# Altium schematic symbol library WE-RJ45 LAN.SchLib: 105 symbols (part 1 of 2)
Pins are listed as number, name and electrical type; pins without a type are passive.

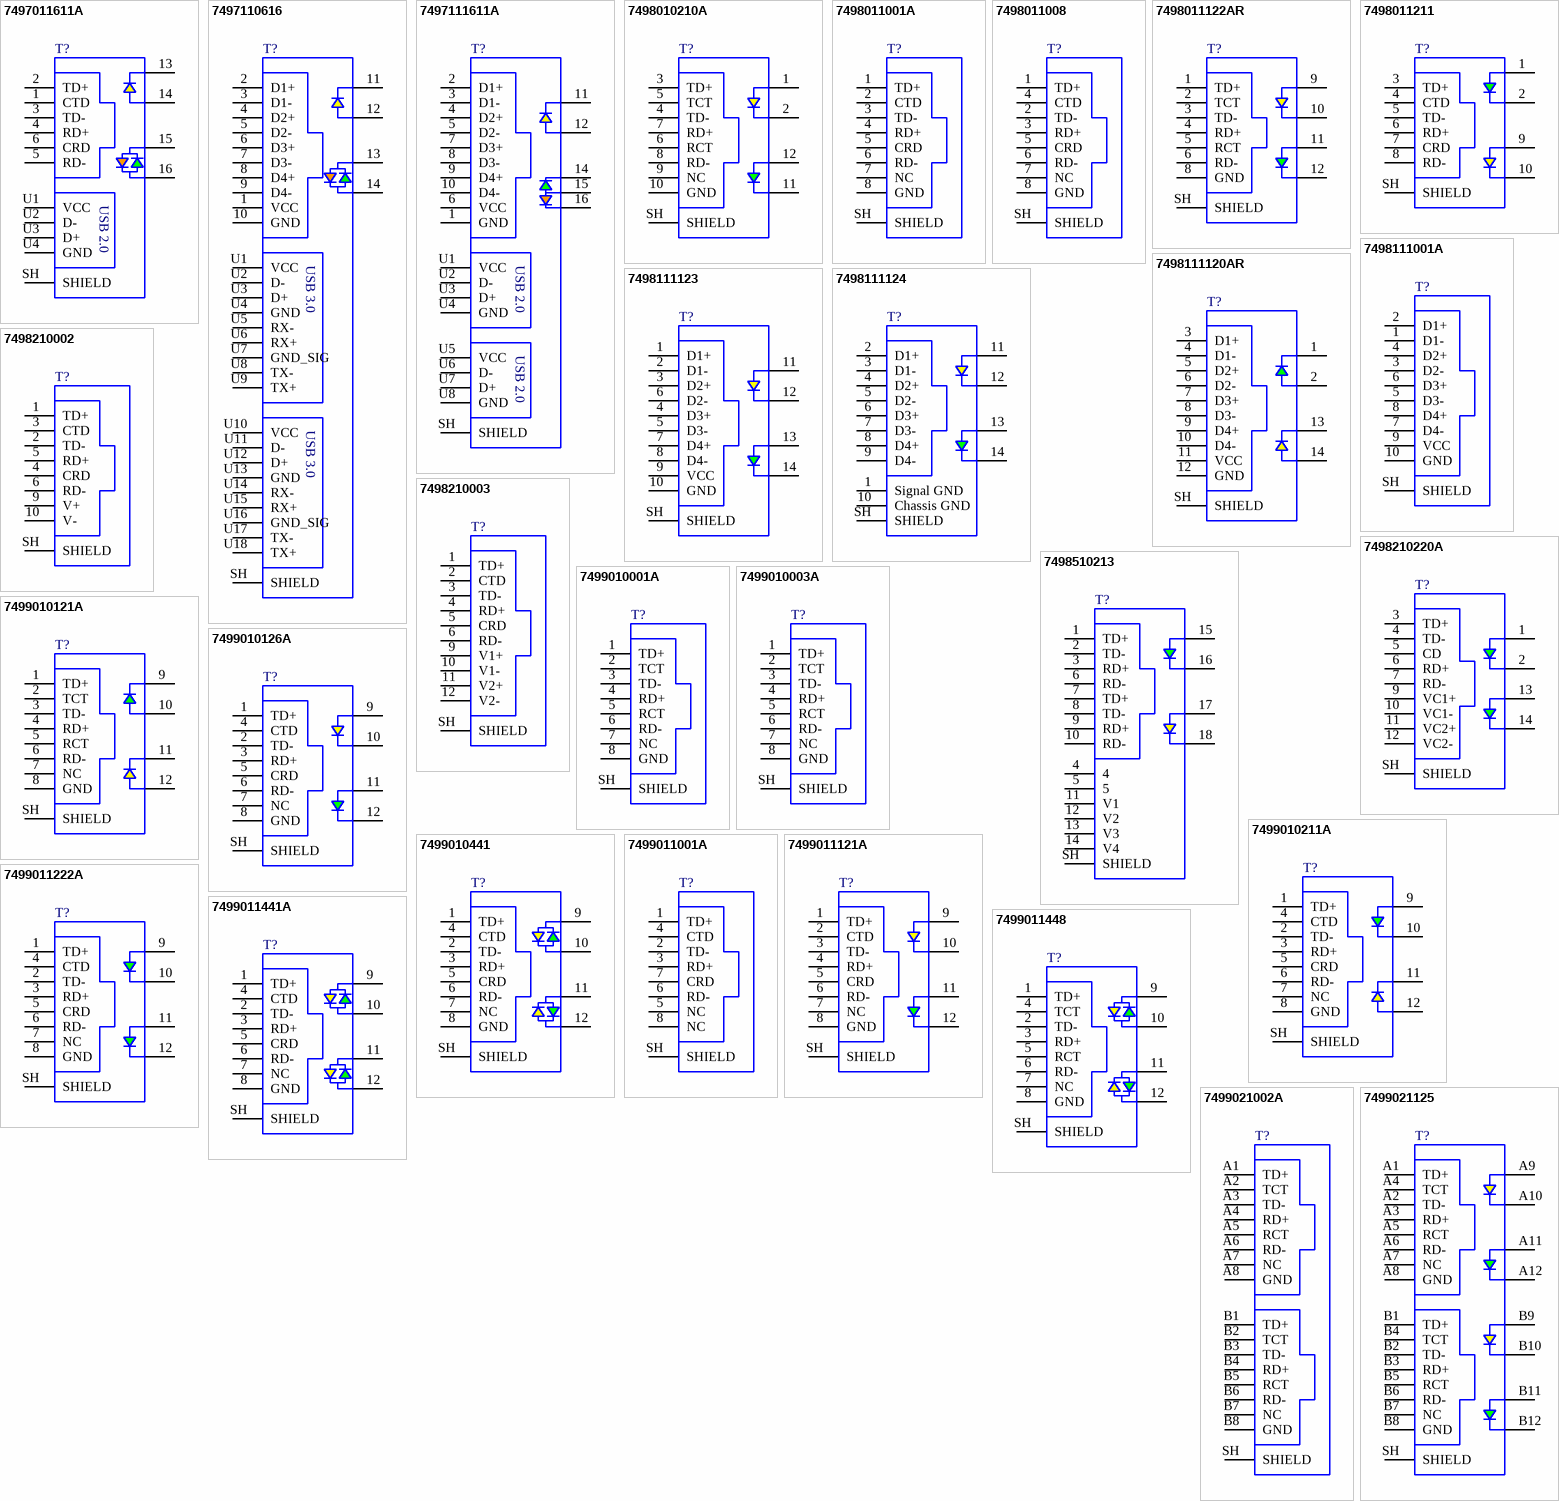
[diagram p0: symbols 7497011611A to 7499021125]

## 7497011611A
designator T?  (value not drawn)
WE-RJ45 LAN Transformer, THT, 100BASE-TX, Tab Up, 1 Port; Manufacturer: Wurth Elektronik; Improved CMRR: No; LED: green/orange-yellow; Number of Ports: 1; PHY Chip Mode: current & voltage; PoE: non-PoE; Shield Tabs: Yes; Manufacturer Part Number: 7497011611A; Product Series: WE-RJ45 LAN; ComponentLink1Description: Website Link; ComponentLink1URL: https://www.we-online.com; ComponentLink2Description: Datasheet Link; ComponentLink2URL: https://www.we-online.com/components/products/datasheet/7497011611A; Mount: Through Hole; Operating Temperature Min: -40degC; Operating Temperature Max: 85degC; Packaging: Tape and Reel; Data Rate: 100BASE-TX; Tab: Up
footprint 7497011611A
pins: 1 CTD, 2 TD+, 3 TD-, 4 RD+, 5 RD-, 6 CRD, 13, 14, 15, 16, SH SHIELD, U1 VCC, U2 D-, U3 D+, U4 GND
text: USB 2.0

## 7497110616
designator T?  (value not drawn)
WE-RJ45 LAN Transformer, THT, 1000BASE-T, Tab Up, 1 Port; Manufacturer: Wurth Elektronik; Improved CMRR: No; LED: yellow/green-green; Number of Ports: 1; PHY Chip Mode: current; PoE: non-PoE; Manufacturer Part Number: 7497110616; Product Series: WE-RJ45 LAN; ComponentLink1Description: Website Link; ComponentLink1URL: https://www.we-online.com; ComponentLink2Description: Datasheet Link; ComponentLink2URL: https://www.we-online.com/components/products/datasheet/7497110616; Mount: Through Hole; Operating Temperature Min: -40degC; Operating Temperature Max: 85degC; Packaging: Tray; Data Rate: 1000BASE-T; Shield Tabs: No; Tab: Up
footprint 7497110616
pins: 1 VCC, 2 D1+, 3 D1-, 4 D2+, 5 D2-, 6 D3+, 7 D3-, 8 D4+, 9 D4-, 10 GND, 11, 12, 13, 14, SH SHIELD, U1 VCC, U2 D-, U3 D+, U4 GND, U5 RX-, U6 RX+, U7 GND_SIG, U8 TX-, U9 TX+, U10 VCC, U11 D-, U12 D+, U13 GND, U14 RX-, U15 RX+, U16 GND_SIG, U17 TX-, U18 TX+
text: USB 3.0

## 7497111611A
designator T?  (value not drawn)
WE-RJ45 LAN Transformer, THT, 1000BASE-T, Tab Up, 1 Port; Manufacturer: Wurth Elektronik; Improved CMRR: No; LED: green/orange-yellow; Number of Ports: 1; PHY Chip Mode: current; PoE: non-PoE; Shield Tabs: Yes; Manufacturer Part Number: 7497111611A; Product Series: WE-RJ45 LAN; ComponentLink1Description: Website Link; ComponentLink1URL: https://www.we-online.com; ComponentLink2Description: Datasheet Link; ComponentLink2URL: https://www.we-online.com/components/products/datasheet/7497111611A; Mount: Through Hole; Operating Temperature Min: 0degC; Operating Temperature Max: 70degC; Packaging: Tube; Data Rate: 1000BASE-T; Tab: Up
footprint 7497111611A
pins: 1 GND, 2 D1+, 3 D1-, 4 D2+, 5 D2-, 6 VCC, 7 D3+, 8 D3-, 9 D4+, 10 D4-, 11, 12, 14, 15, 16, SH SHIELD, U1 VCC, U2 D-, U3 D+, U4 GND, U5 VCC, U6 D-, U7 D+, U8 GND
text: USB 2.0

## 7498010210A
designator T?  (value not drawn)
WE-RJ45 LAN Transformer, SMT, 10/100BASE-T, Tab Up, 1 Port; Manufacturer: Wurth Elektronik; Improved CMRR: No; LED: green-yellow; Number of Ports: 1; PHY Chip Mode: current & voltage; PoE: non-PoE; Shield Tabs: Yes; Manufacturer Part Number: 7498010210A; Product Series: WE-RJ45 LAN; ComponentLink1Description: Website Link; ComponentLink1URL: https://www.we-online.com; ComponentLink2Description: Datasheet Link; ComponentLink2URL: https://www.we-online.com/components/products/datasheet/7498010210A; Mount: Surface Mount; Operating Temperature Min: -40degC; Operating Temperature Max: 85degC; Packaging: Tape and Reel; Data Rate: 10/100BASE-T; Tab: Up
footprint 7498010210A
pins: 1, 2, 3 TD+, 4 TD-, 5 TCT, 6 RCT, 7 RD+, 8 RD-, 9 NC, 10 GND, 11, 12, SH SHIELD

## 7498011001A
designator T?  (value not drawn)
WE-RJ45 LAN Transformer, SMT, 100BASE-TX, Tab Down, 1 Port; Manufacturer: Wurth Elektronik; Improved CMRR: No; LED: No LED; Number of Ports: 1; PHY Chip Mode: current & voltage; PoE: non-PoE; Shield Tabs: Yes; Manufacturer Part Number: 7498011001A; Product Series: WE-RJ45 LAN; ComponentLink1Description: Website Link; ComponentLink1URL: https://www.we-online.com; ComponentLink2Description: Datasheet Link; ComponentLink2URL: https://www.we-online.com/components/products/datasheet/7498011001A; Mount: Surface Mount; Operating Temperature Min: -40degC; Operating Temperature Max: 85degC; Packaging: Tray; Data Rate: 100BASE-TX; Tab: Down
footprint 7498011001A
pins: 1 TD+, 2 CTD, 3 TD-, 4 RD+, 5 CRD, 6 RD-, 7 NC, 8 GND, SH SHIELD

## 7498011008
designator T?  (value not drawn)
WE-RJ45 LAN Transformer, SMT, 100BASE-TX, Tab Down, 1 Port; Manufacturer: Wurth Elektronik; Improved CMRR: No; LED: No LED; Number of Ports: 1; PHY Chip Mode: current & voltage; PoE: non-PoE; Shield Tabs: Yes; Manufacturer Part Number: 7498011008; Product Series: WE-RJ45 LAN; ComponentLink1Description: Website Link; ComponentLink1URL: https://www.we-online.com; ComponentLink2Description: Datasheet Link; ComponentLink2URL: https://www.we-online.com/components/products/datasheet/7498011008; Mount: Surface Mount; Operating Temperature Min: -40degC; Operating Temperature Max: 85degC; Packaging: Tray; Data Rate: 100BASE-TX; Tab: Down
footprint 7498011008
pins: 1 TD+, 2 TD-, 3 RD+, 4 CTD, 5 CRD, 6 RD-, 7 NC, 8 GND, SH SHIELD

## 7498011122AR
designator T?  (value not drawn)
WE-RJ45 LAN Transformer, SMT, 10/100BASE-T, Tab Up, 1 Port; Manufacturer: Wurth Elektronik; Improved CMRR: No; LED: yellow-green; Number of Ports: 1; PHY Chip Mode: current & voltage; PoE: non-PoE; Shield Tabs: Yes; Manufacturer Part Number: 7498011122AR; Product Series: WE-RJ45 LAN; ComponentLink1Description: Website Link; ComponentLink1URL: https://www.we-online.com; ComponentLink2Description: Datasheet Link; ComponentLink2URL: https://www.we-online.com/components/products/datasheet/7498011122AR; Mount: Surface Mount; Operating Temperature Min: -40degC; Operating Temperature Max: 85degC; Packaging: Tape and Reel; Data Rate: 10/100BASE-T; Tab: Up
footprint 7498011122AR
pins: 1 TD+, 2 TCT, 3 TD-, 4 RD+, 5 RCT, 6 RD-, 8 GND, 9, 10, 11, 12, SH SHIELD

## 7498011211
designator T?  (value not drawn)
WE-RJ45 LAN Transformer, SMT, 100BASE-TX, Tab Down, 1 Port; Manufacturer: Wurth Elektronik; Improved CMRR: Yes; LED: green-yellow; Number of Ports: 1; PHY Chip Mode: current & voltage; PoE: non-PoE; Manufacturer Part Number: 7498011211; Product Series: WE-RJ45 LAN; ComponentLink1Description: Website Link; ComponentLink1URL: https://www.we-online.com; ComponentLink2Description: Datasheet Link; ComponentLink2URL: https://www.we-online.com/components/products/datasheet/7498011211; Mount: Surface Mount; Operating Temperature Min: -40degC; Operating Temperature Max: 85degC; Packaging: Tray; Data Rate: 100BASE-TX; Shield Tabs: Yes; Tab: Down
footprint 7498011211
pins: 1, 2, 3 TD+, 4 CTD, 5 TD-, 6 RD+, 7 CRD, 8 RD-, 9, 10, SH SHIELD

## 7498111001A
designator T?  (value not drawn)
WE-RJ45 LAN Transformer, SMT, 1000BASE-T, Tab Up, 1 Port; Manufacturer: Wurth Elektronik; Improved CMRR: No; LED: No LED; Number of Ports: 1; PHY Chip Mode: current; PoE: non-PoE; Shield Tabs: Yes; Manufacturer Part Number: 7498111001A; Product Series: WE-RJ45 LAN; ComponentLink1Description: Website Link; ComponentLink1URL: https://www.we-online.com; ComponentLink2Description: Datasheet Link; ComponentLink2URL: https://www.we-online.com/components/products/datasheet/7498111001A; Mount: Surface Mount; Operating Temperature Min: -40degC; Operating Temperature Max: 85degC; Packaging: Tray; Data Rate: 1000BASE-T; Tab: Up
footprint 7498111001A
pins: 1 D1-, 2 D1+, 3 D2-, 4 D2+, 5 D3-, 6 D3+, 7 D4-, 8 D4+, 9 VCC, 10 GND, SH SHIELD

## 7498111120AR
designator T?  (value not drawn)
WE-RJ45 LAN Transformer, SMT, 1000BASE-T, Tab Up, 1 Port; Manufacturer: Wurth Elektronik; Improved CMRR: No; LED: yellow-green; Number of Ports: 1; PHY Chip Mode: current; PoE: non-PoE; Shield Tabs: Yes; Manufacturer Part Number: 7498111120AR; Product Series: WE-RJ45 LAN; ComponentLink1Description: Website Link; ComponentLink1URL: https://www.we-online.com; ComponentLink2Description: Datasheet Link; ComponentLink2URL: https://www.we-online.com/components/products/datasheet/7498111120AR; Mount: Surface Mount; Operating Temperature Min: -40degC; Operating Temperature Max: 85degC; Packaging: Tape and Reel; Data Rate: 1000BASE-T; Tab: Up
footprint 7498111120AR
pins: 1, 2, 3 D1+, 4 D1-, 5 D2+, 6 D2-, 7 D3+, 8 D3-, 9 D4+, 10 D4-, 11 VCC, 12 GND, 13, 14, SH SHIELD

## 7498111123
designator T?  (value not drawn)
WE-RJ45 LAN Through Hole Reflow, THR, 1000BASE-T, Tab Down, 1 Port; Manufacturer: Wurth Elektronik; Improved CMRR: No; LED: yellow-green; Number of Ports: 1; PHY Chip Mode: current; PoE: non-PoE; Shield Tabs: Yes; Manufacturer Part Number: 7498111123; Product Series: WE-RJ45 LAN; ComponentLink1Description: Website Link; ComponentLink1URL: https://www.we-online.com; ComponentLink2Description: Datasheet Link; ComponentLink2URL: https://www.we-online.com/components/products/datasheet/7498111123; Mount: Through Hole Reflow; Operating Temperature Min: -40degC; Operating Temperature Max: 85degC; Packaging: Tape and Reel; Data Rate: 1000BASE-T; Tab: Down; USB: No
footprint 7498111123
pins: 1 D1+, 2 D1-, 3 D2+, 4 D3+, 5 D3-, 6 D2-, 7 D4+, 8 D4-, 9 VCC, 10 GND, 11, 12, 13, 14, SH SHIELD

## 7498111124
designator T?  (value not drawn)
WE-RJ45 LAN Through Hole Reflow, THR, 1000BASE-T, Tab Down, 1 Port; Manufacturer: Wurth Elektronik; Improved CMRR: No; LED: yellow-green; Number of Ports: 1; PHY Chip Mode: voltage; PoE: non-PoE; Shield Tabs: Yes; Manufacturer Part Number: 7498111124; Product Series: WE-RJ45 LAN; ComponentLink1Description: Website Link; ComponentLink1URL: https://www.we-online.com; ComponentLink2Description: Datasheet Link; ComponentLink2URL: https://www.we-online.com/components/products/datasheet/7498111124; Mount: Through Hole Reflow; Operating Temperature Min: -40degC; Operating Temperature Max: 85degC; Packaging: Tape and Reel; Data Rate: 1000BASE-T; Tab: Down; USB: No
footprint 7498111124
pins: 1 Signal GND, 2 D1+, 3 D1-, 4 D2+, 5 D2-, 6 D3+, 7 D3-, 8 D4+, 9 D4-, 10 Chassis GND, 11, 12, 13, 14, SH SHIELD

## 7498210002
designator T?  (value not drawn)
WE-RJ45 LAN Transformer, SMT, 100BASE-TX, Tab Down, 1 Port; Manufacturer: Wurth Elektronik; Improved CMRR: No; LED: No LED; Number of Ports: 1; PHY Chip Mode: current & voltage; PoE: PoE+ (up to 600 mA); Manufacturer Part Number: 7498210002; Product Series: WE-RJ45 LAN; ComponentLink1Description: Website Link; ComponentLink1URL: https://www.we-online.com; ComponentLink2Description: Datasheet Link; ComponentLink2URL: https://www.we-online.com/components/products/datasheet/7498210002; Mount: Surface Mount; Operating Temperature Min: -40degC; Operating Temperature Max: 85degC; Packaging: Tape and Reel; Data Rate: 100BASE-TX; Shield Tabs: No; Tab: Down
footprint 7498210002
pins: 1 TD+, 2 TD-, 3 CTD, 4 CRD, 5 RD+, 6 RD-, 9 V+, 10 V-, SH SHIELD

## 7498210003
designator T?  (value not drawn)
WE-RJ45 LAN Transformer, SMT, 10/100BASE-T, Tab Up, 1 Port; Manufacturer: Wurth Elektronik; Improved CMRR: No; LED: No LED; Number of Ports: 1; PHY Chip Mode: current & voltage; Shield Tabs: Yes; Manufacturer Part Number: 7498210003; Product Series: WE-RJ45 LAN; ComponentLink1Description: Website Link; ComponentLink1URL: https://www.we-online.com; ComponentLink2Description: Datasheet Link; ComponentLink2URL: https://www.we-online.com/components/products/datasheet/7498210003; Mount: Surface Mount; Operating Temperature Min: -40degC; Operating Temperature Max: 85degC; Packaging: Tray; Data Rate: 10/100BASE-T; PoE: PoE; Tab: Up
footprint 7498210003
pins: 1 TD+, 2 CTD, 3 TD-, 4 RD+, 5 CRD, 6 RD-, 9 V1+, 10 V1-, 11 V2+, 12 V2-, SH SHIELD

## 7498210220A
designator T?  (value not drawn)
WE-RJ45 LAN Transformer, SMT, 10/100BASE-TX, Tab Up, 1 Port; Manufacturer: Wurth Elektronik; LED: green-green; Number of Ports: 1; Shield Tabs: No; Manufacturer Part Number: 7498210220A; Product Series: WE-RJ45 LAN; ComponentLink1Description: Website Link; ComponentLink1URL: https://www.we-online.com; ComponentLink2Description: Datasheet Link; ComponentLink2URL: https://www.we-online.com/components/products/datasheet/7498210220A; Mount: Surface Mount; Operating Temperature Min: -40degC; Operating Temperature Max: 85degC; Packaging: Tray; Data Rate: 10/100BASE-TX; PoE: PoE; Tab: Up; USB: No
footprint 7498210220A
pins: 1, 2, 3 TD+, 4 TD-, 5 CD, 6 RD+, 7 RD-, 9 VC1+, 10 VC1-, 11 VC2+, 12 VC2-, 13, 14, SH SHIELD

## 7498510213
designator T?  (value not drawn)
WE-RJ45 LAN Through Hole Reflow, THR, 1000BASE-T, Tab Down, 1 Port; Manufacturer: Wurth Elektronik; Improved CMRR: No; LED: green-yellow; Number of Ports: 1; PHY Chip Mode: current; Manufacturer Part Number: 7498510213; Product Series: WE-RJ45 LAN; ComponentLink1Description: Website Link; ComponentLink1URL: https://www.we-online.com; ComponentLink2Description: Datasheet Link; ComponentLink2URL: https://www.we-online.com/components/products/datasheet/7498510213; Mount: Through Hole Reflow; Operating Temperature Min: -40degC; Operating Temperature Max: 85degC; Packaging: Tape and Reel; Data Rate: 1000BASE-T; PoE: PoE; Shield Tabs: No; Tab: Down
footprint 7498510213
pins: 1 TD+, 2 TD-, 3 RD+, 4, 5, 6 RD-, 7 TD+, 8 TD-, 9 RD+, 10 RD-, 11 V1, 12 V2, 13 V3, 14 V4, 15, 16, 17, 18, SH SHIELD

## 7499010001A
designator T?  (value not drawn)
WE-RJ45 LAN Transformer, THT, 100BASE-TX, Tab Up, 1x1 Port; Manufacturer: Wurth Elektronik; Improved CMRR: No; PHY Chip Mode: current & voltage; PoE: non-PoE; Manufacturer Part Number: 7499010001A; Product Series: WE-RJ45 LAN; ComponentLink1Description: Website Link; ComponentLink1URL: https://www.we-online.com; ComponentLink2Description: Datasheet Link; ComponentLink2URL: https://www.we-online.com/components/products/datasheet/7499010001A; Mount: Through Hole; Operating Temperature Min: -40degC; Operating Temperature Max: 85degC; Packaging: Tube; Data Rate: 100BASE-TX; Number of Ports: 1x1; Shield Tabs: No; Tab: Up
footprint 7499010001A
pins: 1 TD+, 2 TCT, 3 TD-, 4 RD+, 5 RCT, 6 RD-, 7 NC, 8 GND, SH SHIELD

## 7499010003A
designator T?  (value not drawn)
WE-RJ45 LAN Transformer, THT, 10/100BASE-T, Tab Up, 1 Port; Manufacturer: Wurth Elektronik; Improved CMRR: No; LED: No LED; Number of Ports: 1; PHY Chip Mode: current & voltage; PoE: non-PoE; Manufacturer Part Number: 7499010003A; Product Series: WE-RJ45 LAN; ComponentLink1Description: Website Link; ComponentLink1URL: https://www.we-online.com; ComponentLink2Description: Datasheet Link; ComponentLink2URL: https://www.we-online.com/components/products/datasheet/7499010003A; Mount: Through Hole; Operating Temperature Min: -40degC; Operating Temperature Max: 85degC; Packaging: Tube; Data Rate: 10/100BASE-T; Shield Tabs: No; Tab: Up
footprint 7499010003A
pins: 1 TD+, 2 TCT, 3 TD-, 4 RD+, 5 RCT, 6 RD-, 7 NC, 8 GND, SH SHIELD

## 7499010121A
designator T?  (value not drawn)
WE-RJ45 LAN Transformer, THT, 100BASE-TX, Tab Up, 1x1 Port; Manufacturer: Wurth Elektronik; Improved CMRR: No; LED: yellow-green; PHY Chip Mode: current & voltage; PoE: non-PoE; Manufacturer Part Number: 7499010121A; Product Series: WE-RJ45 LAN; ComponentLink1Description: Website Link; ComponentLink1URL: https://www.we-online.com; ComponentLink2Description: Datasheet Link; ComponentLink2URL: https://www.we-online.com/components/products/datasheet/7499010121A; Mount: Through Hole; Operating Temperature Min: -40degC; Operating Temperature Max: 85degC; Packaging: Tube; Data Rate: 100BASE-TX; Number of Ports: 1x1; Shield Tabs: No; Tab: Up
footprint 7499010121A
pins: 1 TD+, 2 TCT, 3 TD-, 4 RD+, 5 RCT, 6 RD-, 7 NC, 8 GND, 9, 10, 11, 12, SH SHIELD

## 7499010126A
designator T?  (value not drawn)
WE-RJ45 LAN Transformer, THT, 100BASE-TX, Tab Vertical, 1 Port; Manufacturer: Wurth Elektronik; Improved CMRR: No; LED: green-yellow; Number of Ports: 1; PHY Chip Mode: current & voltage; PoE: non-PoE; Manufacturer Part Number: 7499010126A; Product Series: WE-RJ45 LAN; ComponentLink1Description: Website Link; ComponentLink1URL: https://www.we-online.com; ComponentLink2Description: Datasheet Link; ComponentLink2URL: https://www.we-online.com/components/products/datasheet/7499010126A; Mount: Through Hole; Operating Temperature Min: -40degC; Operating Temperature Max: 85degC; Packaging: Tray; Data Rate: 100BASE-TX; Shield Tabs: No; Tab: Vertical
footprint 7499010126A
pins: 1 TD+, 2 TD-, 3 RD+, 4 CTD, 5 CRD, 6 RD-, 7 NC, 8 GND, 9, 10, 11, 12, SH SHIELD

## 7499010211A
designator T?  (value not drawn)
WE-RJ45 LAN Transformer, THT, 100BASE-TX, Tab Down, 1x1 Port; Manufacturer: Wurth Elektronik; Improved CMRR: No; LED: green-yellow; PHY Chip Mode: current & voltage; PoE: non-PoE; Manufacturer Part Number: 7499010211A; Product Series: WE-RJ45 LAN; ComponentLink1Description: Website Link; ComponentLink1URL: https://www.we-online.com; ComponentLink2Description: Datasheet Link; ComponentLink2URL: https://www.we-online.com/components/products/datasheet/7499010211A; Mount: Through Hole; Operating Temperature Min: 0degC; Operating Temperature Max: 70degC; Packaging: Tube; Data Rate: 100BASE-TX; Number of Ports: 1x1; Shield Tabs: No; Tab: Down
footprint 7499010211A
pins: 1 TD+, 2 TD-, 3 RD+, 4 CTD, 5 CRD, 6 RD-, 7 NC, 8 GND, 9, 10, 11, 12, SH SHIELD

## 7499010441
designator T?  (value not drawn)
WE-RJ45 LAN Transformer, THT, 100BASE-TX, Tab Down, 1 Port; Manufacturer: Wurth Elektronik; Improved CMRR: No; LED: green/yellow - green/yellow; Number of Ports: 1; PHY Chip Mode: current & voltage; PoE: non-PoE; Manufacturer Part Number: 7499010441; Product Series: WE-RJ45 LAN; ComponentLink1Description: Website Link; ComponentLink1URL: https://www.we-online.com; ComponentLink2Description: Datasheet Link; ComponentLink2URL: https://www.we-online.com/components/products/datasheet/7499010441; Mount: Through Hole; Operating Temperature Min: -40degC; Operating Temperature Max: 85degC; Packaging: Tube; Data Rate: 100BASE-TX; Shield Tabs: No; Tab: Down
footprint 7499010441
pins: 1 TD+, 2 TD-, 3 RD+, 4 CTD, 5 CRD, 6 RD-, 7 NC, 8 GND, 9, 10, 11, 12, SH SHIELD

## 7499011001A
designator T?  (value not drawn)
WE-RJ45 LAN Transformer, THT, 100BASE-TX, Tab Down, 1x1 Port; Manufacturer: Wurth Elektronik; Improved CMRR: No; LED: No LED; PHY Chip Mode: current & voltage; PoE: non-PoE; Shield Tabs: Yes; Manufacturer Part Number: 7499011001A; Product Series: WE-RJ45 LAN; ComponentLink1Description: Website Link; ComponentLink1URL: https://www.we-online.com; ComponentLink2Description: Datasheet Link; ComponentLink2URL: https://www.we-online.com/components/products/datasheet/7499011001A; Mount: Through Hole; Operating Temperature Min: -40degC; Operating Temperature Max: 85degC; Packaging: Tube; Data Rate: 100BASE-TX; Number of Ports: 1x1; Tab: Down
footprint 7499011001A
pins: 1 TD+, 2 TD-, 3 RD+, 4 CTD, 5 NC, 6 RD-, 7 CRD, 8 NC, SH SHIELD

## 7499011121A
designator T?  (value not drawn)
WE-RJ45 LAN Transformer, THT, 100BASE-TX, Tab Down, 1x1 Port; Manufacturer: Wurth Elektronik; Improved CMRR: No; LED: yellow-green; PHY Chip Mode: current & voltage; PoE: non-PoE; Shield Tabs: Yes; Manufacturer Part Number: 7499011121A; Product Series: WE-RJ45 LAN; ComponentLink1Description: Website Link; ComponentLink1URL: https://www.we-online.com; ComponentLink2Description: Datasheet Link; ComponentLink2URL: https://www.we-online.com/components/products/datasheet/7499011121A; Mount: Through Hole; Operating Temperature Min: -40degC; Operating Temperature Max: 85degC; Packaging: Tube; Data Rate: 100BASE-TX; Number of Ports: 1x1; Tab: Down
footprint 7499011121A
pins: 1 TD+, 2 CTD, 3 TD-, 4 RD+, 5 CRD, 6 RD-, 7 NC, 8 GND, 9, 10, 11, 12, SH SHIELD

## 7499011222A
designator T?  (value not drawn)
WE-RJ45 LAN Transformer, THT, 100BASE-TX, Tab Down, 1x1 Port; Manufacturer: Wurth Elektronik; Improved CMRR: No; LED: green-green; PHY Chip Mode: current & voltage; PoE: non-PoE; Shield Tabs: Yes; Manufacturer Part Number: 7499011222A; Product Series: WE-RJ45 LAN; ComponentLink1Description: Website Link; ComponentLink1URL: https://www.we-online.com; ComponentLink2Description: Datasheet Link; ComponentLink2URL: https://www.we-online.com/components/products/datasheet/7499011222A; Mount: Through Hole; Operating Temperature Min: -40degC; Operating Temperature Max: 85degC; Packaging: Tube; Data Rate: 100BASE-TX; Number of Ports: 1x1; Tab: Down
footprint 7499011222A
pins: 1 TD+, 2 TD-, 3 RD+, 4 CTD, 5 CRD, 6 RD-, 7 NC, 8 GND, 9, 10, 11, 12, SH SHIELD

## 7499011441A
designator T?  (value not drawn)
WE-RJ45 LAN Transformer, THT, 100BASE-TX, Tab Up, 1 Port; Manufacturer: Wurth Elektronik; Improved CMRR: No; LED: green/yellow - green/yellow; Number of Ports: 1; PHY Chip Mode: current & voltage; PoE: non-PoE; Shield Tabs: Yes; Manufacturer Part Number: 7499011441A; Product Series: WE-RJ45 LAN; ComponentLink1Description: Website Link; ComponentLink1URL: https://www.we-online.com; ComponentLink2Description: Datasheet Link; ComponentLink2URL: https://www.we-online.com/components/products/datasheet/7499011441A; Mount: Through Hole; Operating Temperature Min: -40degC; Operating Temperature Max: 85degC; Packaging: Tube; Data Rate: 100BASE-TX; Tab: Up
footprint 7499011441A
pins: 1 TD+, 2 TD-, 3 RD+, 4 CTD, 5 CRD, 6 RD-, 7 NC, 8 GND, 9, 10, 11, 12, SH SHIELD

## 7499011448
designator T?  (value not drawn)
WE-RJ45 LAN Transformer, THT, 10/100BASE-T, Tab Vertical, 1 Port; Manufacturer: Wurth Elektronik; Improved CMRR: No; LED: yellow/green-yellow/green; Number of Ports: 1; PHY Chip Mode: current & voltage; PoE: non-PoE; Shield Tabs: Yes; Manufacturer Part Number: 7499011448; Product Series: WE-RJ45 LAN; ComponentLink1Description: Website Link; ComponentLink1URL: https://www.we-online.com; ComponentLink2Description: Datasheet Link; ComponentLink2URL: https://www.we-online.com/components/products/datasheet/7499011448; Mount: Through Hole; Operating Temperature Min: -40degC; Operating Temperature Max: 85degC; Packaging: Tray; Data Rate: 10/100BASE-T; Tab: Vertical
footprint 7499011448
pins: 1 TD+, 2 TD-, 3 RD+, 4 TCT, 5 RCT, 6 RD-, 7 NC, 8 GND, 9, 10, 11, 12, SH SHIELD

## 7499021002A
designator T?  (value not drawn)
WE-RJ45 LAN Transformer, THT, 10/100BASE-T, Tab Down, 1x2 Port; Manufacturer: Wurth Elektronik; Improved CMRR: No; LED: No LED; PHY Chip Mode: current & voltage; PoE: non-PoE; Shield Tabs: Yes; Manufacturer Part Number: 7499021002A; Product Series: WE-RJ45 LAN; ComponentLink1Description: Website Link; ComponentLink1URL: https://www.we-online.com; ComponentLink2Description: Datasheet Link; ComponentLink2URL: https://www.we-online.com/components/products/datasheet/7499021002A; Mount: Through Hole; Operating Temperature Min: -40degC; Operating Temperature Max: 85degC; Packaging: Tray; Data Rate: 10/100BASE-T; Number of Ports: 1x2; Tab: Down
footprint 7499021002A
pins: A1 TD+, A2 TCT, A3 TD-, A4 RD+, A5 RCT, A6 RD-, A7 NC, A8 GND, B1 TD+, B2 TCT, B3 TD-, B4 RD+, B5 RCT, B6 RD-, B7 NC, B8 GND, SH SHIELD

## 7499021125
designator T?  (value not drawn)
WE-RJ45 LAN Transformer, THT, 100BASE-TX, Tab Down, 1x2 Port; Manufacturer: Wurth Elektronik; Improved CMRR: No; LED: yellow-green; PHY Chip Mode: current & voltage; PoE: non-PoE; Shield Tabs: Yes; Manufacturer Part Number: 7499021125; Product Series: WE-RJ45 LAN; ComponentLink1Description: Website Link; ComponentLink1URL: https://www.we-online.com; ComponentLink2Description: Datasheet Link; ComponentLink2URL: https://www.we-online.com/components/products/datasheet/7499021125; Mount: Through Hole; Operating Temperature Min: -40degC; Operating Temperature Max: 85degC; Packaging: Tray; Data Rate: 100BASE-TX; Number of Ports: 1x2; Tab: Down
footprint 7499021125
pins: A1 TD+, A2 TD-, A3 RD+, A4 TCT, A5 RCT, A6 RD-, A7 NC, A8 GND, A9, A10, A11, A12, B1 TD+, B2 TD-, B3 RD+, B4 TCT, B5 RCT, B6 RD-, B7 NC, B8 GND, B9, B10, B11, B12, SH SHIELD

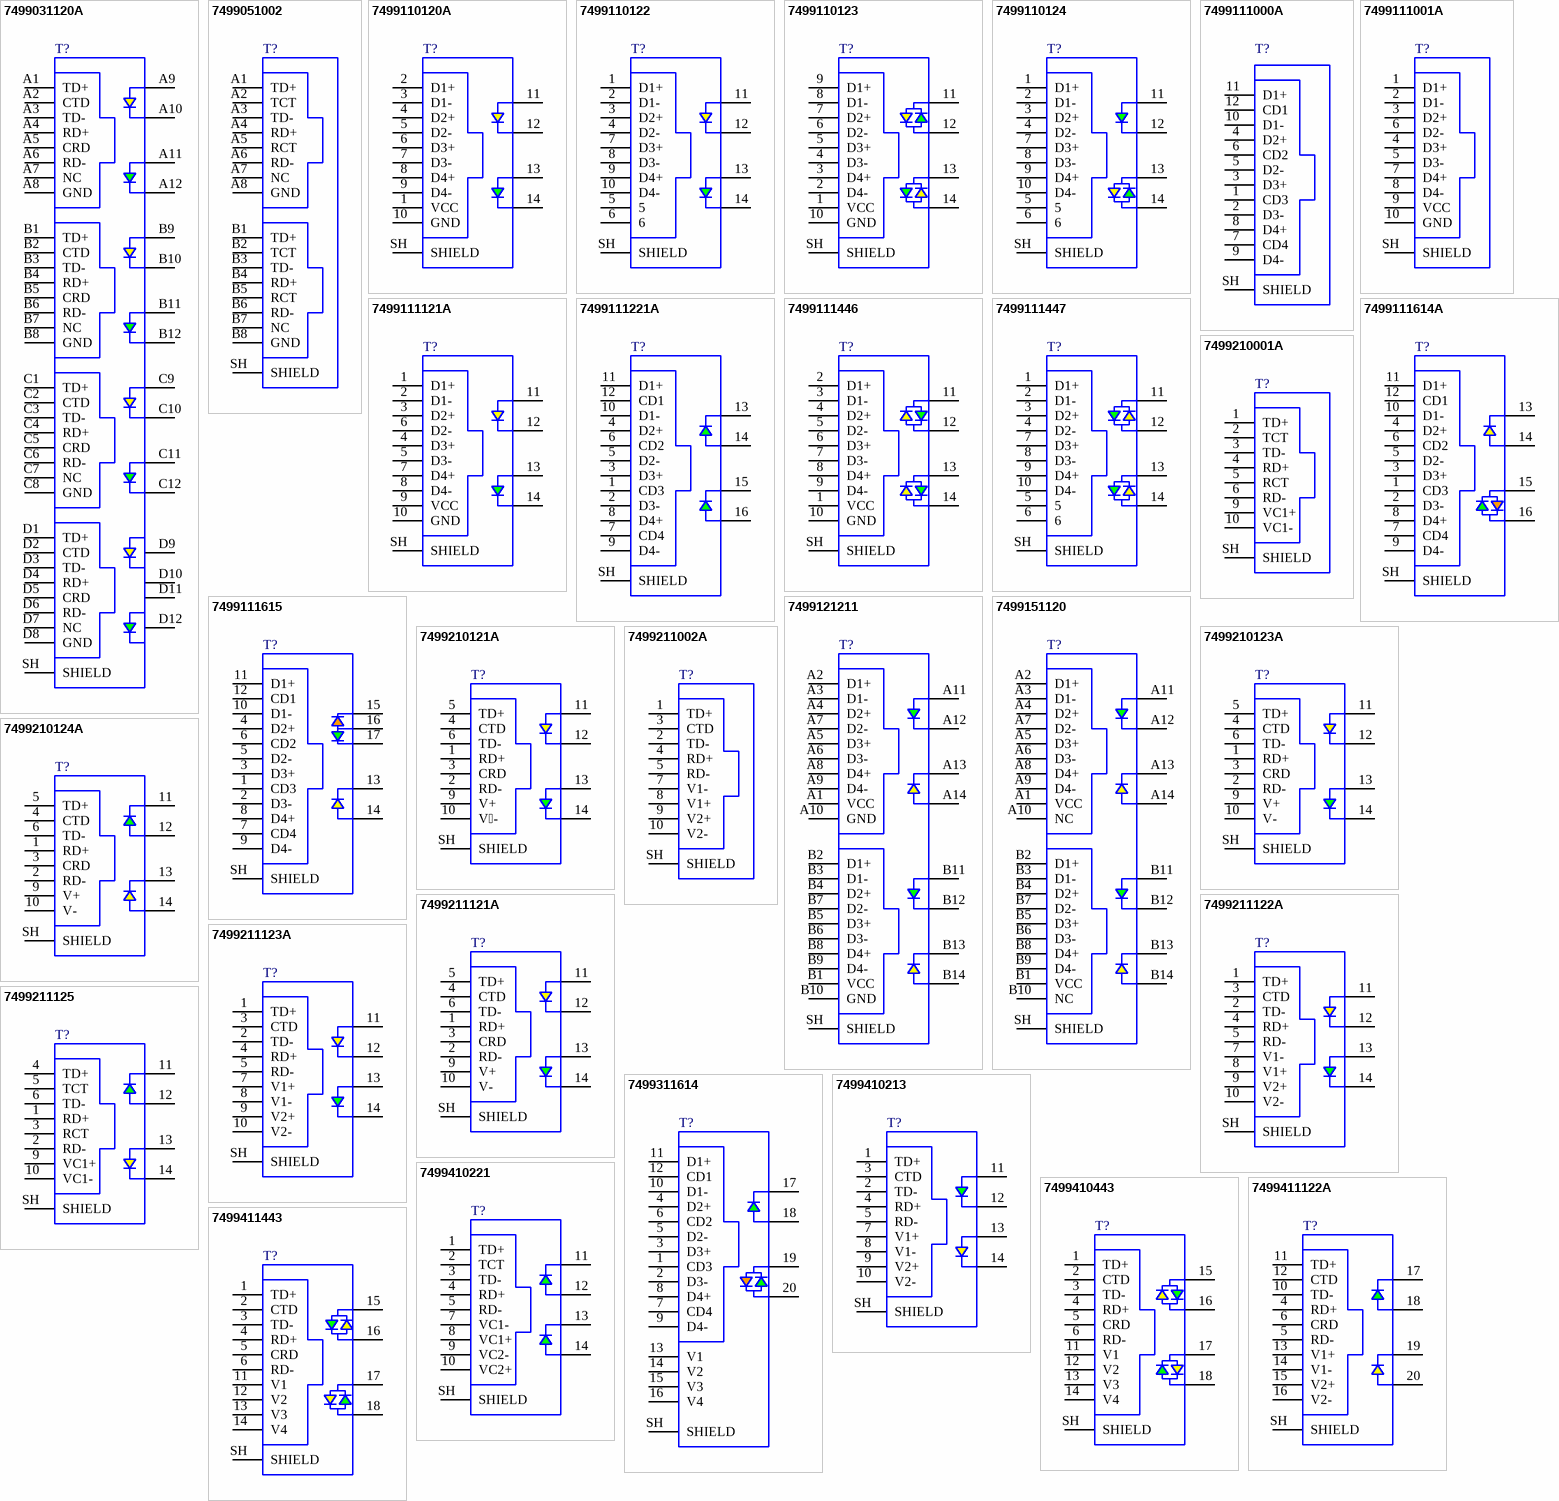
[diagram p1: symbols 7499031120A to 7499411443]

## 7499031120A
designator T?  (value not drawn)
WE-RJ45 LAN Transformer, THT, 100BASE-TX, Tab Down, 1x4 Port; Manufacturer: Wurth Elektronik; Improved CMRR: No; LED: yellow-green; PHY Chip Mode: current & voltage; PoE: non-PoE; Shield Tabs: Yes; Manufacturer Part Number: 7499031120A; Product Series: WE-RJ45 LAN; ComponentLink1Description: Website Link; ComponentLink1URL: https://www.we-online.com; ComponentLink2Description: Datasheet Link; ComponentLink2URL: https://www.we-online.com/components/products/datasheet/7499031120A; Mount: Through Hole; Operating Temperature Min: -40degC; Operating Temperature Max: 85degC; Packaging: Tube; Data Rate: 100BASE-TX; Number of Ports: 1x4; Tab: Down
footprint 7499031120A
pins: A1 TD+, A2 CTD, A3 TD-, A4 RD+, A5 CRD, A6 RD-, A7 NC, A8 GND, A9, A10, A11, A12, B1 TD+, B2 CTD, B3 TD-, B4 RD+, B5 CRD, B6 RD-, B7 NC, B8 GND, B9, B10, B11, B12, C1 TD+, C2 CTD, C3 TD-, C4 RD+, C5 CRD, C6 RD-, C7 NC, C8 GND, C9, C10, C11, C12, D1 TD+, D2 CTD, D3 TD-, D4 RD+, D5 CRD, D6 RD-, D7 NC, D8 GND, D9, D10, D11, D12, SH SHIELD

## 7499051002
designator T?  (value not drawn)
WE-RJ45 LAN Transformer, THT, 10/100BASE-T, Tab Up/Down, 2x1 Port; Manufacturer: Wurth Elektronik; Improved CMRR: No; LED: No LED; PHY Chip Mode: current & voltage; PoE: non-PoE; Shield Tabs: Yes; Manufacturer Part Number: 7499051002; Product Series: WE-RJ45 LAN; ComponentLink1Description: Website Link; ComponentLink1URL: https://www.we-online.com; ComponentLink2Description: Datasheet Link; ComponentLink2URL: https://www.we-online.com/components/products/datasheet/7499051002; Mount: Through Hole; Operating Temperature Min: -40degC; Operating Temperature Max: 85degC; Packaging: Tube; Data Rate: 10/100BASE-T; Number of Ports: 2x1; Tab: Up/Down
footprint 7499051002
pins: A1 TD+, A2 TCT, A3 TD-, A4 RD+, A5 RCT, A6 RD-, A7 NC, A8 GND, B1 TD+, B2 TCT, B3 TD-, B4 RD+, B5 RCT, B6 RD-, B7 NC, B8 GND, SH SHIELD

## 7499110120A
designator T?  (value not drawn)
WE-RJ45 LAN Transformer, THT, 1000BASE-T, Tab Vertical, 1 Port; Manufacturer: Wurth Elektronik; Improved CMRR: No; LED: green-yellow; Number of Ports: 1; PHY Chip Mode: current; PoE: non-PoE; Manufacturer Part Number: 7499110120A; Product Series: WE-RJ45 LAN; ComponentLink1Description: Website Link; ComponentLink1URL: https://www.we-online.com; ComponentLink2Description: Datasheet Link; ComponentLink2URL: https://www.we-online.com/components/products/datasheet/7499110120A; Mount: Through Hole; Operating Temperature Min: -40degC; Operating Temperature Max: 85degC; Packaging: Tray; Data Rate: 1000BASE-T; Shield Tabs: No; Tab: Vertical
footprint 7499110120A
pins: 1 VCC, 2 D1+, 3 D1-, 4 D2+, 5 D2-, 6 D3+, 7 D3-, 8 D4+, 9 D4-, 10 GND, 11, 12, 13, 14, SH SHIELD

## 7499110122
designator T?  (value not drawn)
WE-RJ45 LAN Transformer, THT, 1000BASE-T, Tab Down, 1 Port; Manufacturer: Wurth Elektronik; Improved CMRR: No; LED: yellow-green; Number of Ports: 1; PHY Chip Mode: current; PoE: non-PoE; Manufacturer Part Number: 7499110122; Product Series: WE-RJ45 LAN; ComponentLink1Description: Website Link; ComponentLink1URL: https://www.we-online.com; ComponentLink2Description: Datasheet Link; ComponentLink2URL: https://www.we-online.com/components/products/datasheet/7499110122; Mount: Through Hole; Operating Temperature Min: 0degC; Operating Temperature Max: 70degC; Packaging: Tube; Data Rate: 1000BASE-T; Shield Tabs: No; Tab: Down
footprint 7499110122
pins: 1 D1+, 2 D1-, 3 D2+, 4 D2-, 5, 6, 7 D3+, 8 D3-, 9 D4+, 10 D4-, 11, 12, 13, 14, SH SHIELD

## 7499110123
designator T?  (value not drawn)
WE-RJ45 LAN Transformer, THT, 1000BASE-T, Tab Vertical, 1 Port; Manufacturer: Wurth Elektronik; Improved CMRR: No; LED: green-yellow; Number of Ports: 1; PHY Chip Mode: current; PoE: non-PoE; Manufacturer Part Number: 7499110123; Product Series: WE-RJ45 LAN; ComponentLink1Description: Website Link; ComponentLink1URL: https://www.we-online.com; ComponentLink2Description: Datasheet Link; ComponentLink2URL: https://www.we-online.com/components/products/datasheet/7499110123; Mount: Through Hole; Operating Temperature Min: -40degC; Operating Temperature Max: 85degC; Packaging: Tube; Data Rate: 1000BASE-T; Shield Tabs: No; Tab: Vertical
footprint 7499110123
pins: 1 VCC, 2 D4-, 3 D4+, 4 D3-, 5 D3+, 6 D2-, 7 D2+, 8 D1-, 9 D1+, 10 GND, 11, 12, 13, 14, SH SHIELD

## 7499110124
designator T?  (value not drawn)
WE-RJ45 LAN Transformer, THT, 1000BASE-T, Tab Up, 1 Port; Manufacturer: Wurth Elektronik; Improved CMRR: No; LED: green-yellow/green; Number of Ports: 1; PHY Chip Mode: current; PoE: non-PoE; Manufacturer Part Number: 7499110124; Product Series: WE-RJ45 LAN; ComponentLink1Description: Website Link; ComponentLink1URL: https://www.we-online.com; ComponentLink2Description: Datasheet Link; ComponentLink2URL: https://www.we-online.com/components/products/datasheet/7499110124; Mount: Through Hole; Operating Temperature Min: -40degC; Operating Temperature Max: 85degC; Packaging: Tube; Data Rate: 1000BASE-T; Shield Tabs: No; Tab: Up
footprint 7499110124
pins: 1 D1+, 2 D1-, 3 D2+, 4 D2-, 5, 6, 7 D3+, 8 D3-, 9 D4+, 10 D4-, 11, 12, 13, 14, SH SHIELD

## 7499111000A
designator T?  (value not drawn)
WE-RJ45 LAN Transformer, THT, 1000BASE-T, Tab Up, 1 Port; Manufacturer: Wurth Elektronik; Improved CMRR: No; Number of Ports: 1; PHY Chip Mode: current & voltage; PoE: non-PoE; Shield Tabs: Yes; Manufacturer Part Number: 7499111000A; Product Series: WE-RJ45 LAN; ComponentLink1Description: Website Link; ComponentLink1URL: https://www.we-online.com; ComponentLink2Description: Datasheet Link; ComponentLink2URL: https://www.we-online.com/components/products/datasheet/7499111000A; Mount: Through Hole; Operating Temperature Min: 0degC; Operating Temperature Max: 70degC; Packaging: Tube; Data Rate: 1000BASE-T; Tab: Up
footprint 7499111000A
pins: 1 CD3, 2 D3-, 3 D3+, 4 D2+, 5 D2-, 6 CD2, 7 CD4, 8 D4+, 9 D4-, 10 D1-, 11 D1+, 12 CD1, SH SHIELD

## 7499111001A
designator T?  (value not drawn)
WE-RJ45 LAN Transformer, THT, 1000BASE-T, Tab Down, 1 Port; Manufacturer: Wurth Elektronik; Improved CMRR: No; LED: No LED; Number of Ports: 1; PHY Chip Mode: current; PoE: non-PoE; Shield Tabs: Yes; Manufacturer Part Number: 7499111001A; Product Series: WE-RJ45 LAN; ComponentLink1Description: Website Link; ComponentLink1URL: https://www.we-online.com; ComponentLink2Description: Datasheet Link; ComponentLink2URL: https://www.we-online.com/components/products/datasheet/7499111001A; Mount: Through Hole; Operating Temperature Min: -40degC; Operating Temperature Max: 85degC; Packaging: Tube; Data Rate: 1000BASE-T; Tab: Down
footprint 7499111001A
pins: 1 D1+, 2 D1-, 3 D2+, 4 D3+, 5 D3-, 6 D2-, 7 D4+, 8 D4-, 9 VCC, 10 GND, SH SHIELD

## 7499111121A
designator T?  (value not drawn)
WE-RJ45 LAN Transformer, THT, 1000BASE-T, Tab Down, 1 Port; Manufacturer: Wurth Elektronik; Improved CMRR: No; LED: yellow-green; Number of Ports: 1; PHY Chip Mode: current; PoE: non-PoE; Shield Tabs: Yes; Manufacturer Part Number: 7499111121A; Product Series: WE-RJ45 LAN; ComponentLink1Description: Website Link; ComponentLink1URL: https://www.we-online.com; ComponentLink2Description: Datasheet Link; ComponentLink2URL: https://www.we-online.com/components/products/datasheet/7499111121A; Mount: Through Hole; Operating Temperature Min: -40degC; Operating Temperature Max: 85degC; Packaging: Tube; Data Rate: 1000BASE-T; Tab: Down
footprint 7499111121A
pins: 1 D1+, 2 D1-, 3 D2+, 4 D3+, 5 D3-, 6 D2-, 7 D4+, 8 D4-, 9 VCC, 10 GND, 11, 12, 13, 14, SH SHIELD

## 7499111221A
designator T?  (value not drawn)
WE-RJ45 LAN Transformer, THT, 1000BASE-T, Tab Up, 1 Port; Manufacturer: Wurth Elektronik; Improved CMRR: No; LED: green-green; Number of Ports: 1; PHY Chip Mode: current & voltage; PoE: non-PoE; Shield Tabs: Yes; Manufacturer Part Number: 7499111221A; Product Series: WE-RJ45 LAN; ComponentLink1Description: Website Link; ComponentLink1URL: https://www.we-online.com; ComponentLink2Description: Datasheet Link; ComponentLink2URL: https://www.we-online.com/components/products/datasheet/7499111221A; Mount: Through Hole; Operating Temperature Min: 0degC; Operating Temperature Max: 70degC; Packaging: Tube; Data Rate: 1000BASE-T; Tab: Up
footprint 7499111221A
pins: 1 CD3, 2 D3-, 3 D3+, 4 D2+, 5 D2-, 6 CD2, 7 CD4, 8 D4+, 9 D4-, 10 D1-, 11 D1+, 12 CD1, 13, 14, 15, 16, SH SHIELD

## 7499111446
designator T?  (value not drawn)
WE-RJ45 LAN Transformer, THT, 1000BASE-T, Tab Down, 1 Port; Manufacturer: Wurth Elektronik; Improved CMRR: No; LED: green/yellow - green/yellow; Number of Ports: 1; PHY Chip Mode: current; PoE: non-PoE; Shield Tabs: Yes; Manufacturer Part Number: 7499111446; Product Series: WE-RJ45 LAN; ComponentLink1Description: Website Link; ComponentLink1URL: https://www.we-online.com; ComponentLink2Description: Datasheet Link; ComponentLink2URL: https://www.we-online.com/components/products/datasheet/7499111446; Mount: Through Hole; Operating Temperature Min: -40degC; Operating Temperature Max: 85degC; Packaging: Tube; Data Rate: 1000BASE-T; Tab: Down
footprint 7499111446
pins: 1 VCC, 2 D1+, 3 D1-, 4 D2+, 5 D2-, 6 D3+, 7 D3-, 8 D4+, 9 D4-, 10 GND, 11, 12, 13, 14, SH SHIELD

## 7499111447
designator T?  (value not drawn)
WE-RJ45 LAN Transformer, THT, 1000BASE-T, Tab Up, 1 Port; Manufacturer: Wurth Elektronik; Improved CMRR: No; LED: green/yellow - green/yellow; Number of Ports: 1; PHY Chip Mode: current; PoE: non-PoE; Shield Tabs: Yes; Manufacturer Part Number: 7499111447; Product Series: WE-RJ45 LAN; ComponentLink1Description: Website Link; ComponentLink1URL: https://www.we-online.com; ComponentLink2Description: Datasheet Link; ComponentLink2URL: https://www.we-online.com/components/products/datasheet/7499111447; Mount: Through Hole; Operating Temperature Min: -40degC; Operating Temperature Max: 85degC; Packaging: Tube; Data Rate: 1000BASE-T; Tab: Up
footprint 7499111447
pins: 1 D1+, 2 D1-, 3 D2+, 4 D2-, 5, 6, 7 D3+, 8 D3-, 9 D4+, 10 D4-, 11, 12, 13, 14, SH SHIELD

## 7499111614A
designator T?  (value not drawn)
WE-RJ45 LAN Transformer, THT, 1000BASE-T, Tab Up, 1 Port; Manufacturer: Wurth Elektronik; Improved CMRR: Yes; LED: green/orange-yellow; Number of Ports: 1; PHY Chip Mode: current & voltage; PoE: non-PoE; Manufacturer Part Number: 7499111614A; Product Series: WE-RJ45 LAN; ComponentLink1Description: Website Link; ComponentLink1URL: https://www.we-online.com; ComponentLink2Description: Datasheet Link; ComponentLink2URL: https://www.we-online.com/components/products/datasheet/7499111614A; Mount: Through Hole; Operating Temperature Min: -40degC; Operating Temperature Max: 85degC; Packaging: Tube; Data Rate: 1000BASE-T; Shield Tabs: Yes; Tab: Up
footprint 7499111614A
pins: 1 CD3, 2 D3-, 3 D3+, 4 D2+, 5 D2-, 6 CD2, 7 CD4, 8 D4+, 9 D4-, 10 D1-, 11 D1+, 12 CD1, 13, 14, 15, 16, SH SHIELD

## 7499111615
designator T?  (value not drawn)
WE-RJ45 LAN Transformer, THT, 1000BASE-T, Tab Up, 1 Port; Manufacturer: Wurth Elektronik; Improved CMRR: No; LED: green/orange-yellow; Number of Ports: 1; PHY Chip Mode: current & voltage; PoE: non-PoE; Shield Tabs: Yes; Manufacturer Part Number: 7499111615; Product Series: WE-RJ45 LAN; ComponentLink1Description: Website Link; ComponentLink1URL: https://www.we-online.com; ComponentLink2Description: Datasheet Link; ComponentLink2URL: https://www.we-online.com/components/products/datasheet/7499111615; Mount: Through Hole; Operating Temperature Min: -40degC; Operating Temperature Max: 85degC; Packaging: Tray; Data Rate: 1000BASE-T; Tab: Up
footprint 7499111615
pins: 1 CD3, 2 D3-, 3 D3+, 4 D2+, 5 D2-, 6 CD2, 7 CD4, 8 D4+, 9 D4-, 10 D1-, 11 D1+, 12 CD1, 13, 14, 15, 16, 17, SH SHIELD

## 7499121211
designator T?  (value not drawn)
WE-RJ45 LAN Transformer, THT, 1000BASE-T, Tab Down, 1x2 Port; Manufacturer: Wurth Elektronik; Improved CMRR: No; LED: green-yellow; PHY Chip Mode: current; PoE: non-PoE; Shield Tabs: Yes; Manufacturer Part Number: 7499121211; Product Series: WE-RJ45 LAN; ComponentLink1Description: Website Link; ComponentLink1URL: https://www.we-online.com; ComponentLink2Description: Datasheet Link; ComponentLink2URL: https://www.we-online.com/components/products/datasheet/7499121211; Mount: Through Hole; Operating Temperature Min: -40degC; Operating Temperature Max: 85degC; Packaging: Tube; Data Rate: 1000BASE-T; Number of Ports: 1x2; Tab: Down
footprint 7499121211
pins: A1 VCC, A2 D1+, A3 D1-, A4 D2+, A5 D3+, A6 D3-, A7 D2-, A8 D4+, A9 D4-, A10 GND, A11, A12, A13, A14, B1 VCC, B2 D1+, B3 D1-, B4 D2+, B5 D3+, B6 D3-, B7 D2-, B8 D4+, B9 D4-, B10 GND, B11, B12, B13, B14, SH SHIELD

## 7499151120
designator T?  (value not drawn)
WE-RJ45 LAN Transformer, THT, 1000BASE-T, Tab Up/Down, 2x1 Port; Manufacturer: Wurth Elektronik; Improved CMRR: No; LED: yellow-green; PHY Chip Mode: current; PoE: non-PoE; Shield Tabs: Yes; Manufacturer Part Number: 7499151120; Product Series: WE-RJ45 LAN; ComponentLink1Description: Website Link; ComponentLink1URL: https://www.we-online.com; ComponentLink2Description: Datasheet Link; ComponentLink2URL: https://www.we-online.com/components/products/datasheet/7499151120; Mount: Through Hole; Operating Temperature Min: -40degC; Operating Temperature Max: 85degC; Packaging: Tray; Data Rate: 1000BASE-T; Number of Ports: 2x1; Tab: Up/Down
footprint 7499151120
pins: A1 VCC, A2 D1+, A3 D1-, A4 D2+, A5 D3+, A6 D3-, A7 D2-, A8 D4+, A9 D4-, A10 NC, A11, A12, A13, A14, B1 VCC, B2 D1+, B3 D1-, B4 D2+, B5 D3+, B6 D3-, B7 D2-, B8 D4+, B9 D4-, B10 NC, B11, B12, B13, B14, SH SHIELD

## 7499210001A
designator T?  (value not drawn)
WE-RJ45 LAN Transformer, THT, 10/100BASE-T, Tab Up, 1 Port; Manufacturer: Wurth Elektronik; Improved CMRR: No; LED: No LED; Number of Ports: 1; PHY Chip Mode: current & voltage; Manufacturer Part Number: 7499210001A; Product Series: WE-RJ45 LAN; ComponentLink1Description: Website Link; ComponentLink1URL: https://www.we-online.com; ComponentLink2Description: Datasheet Link; ComponentLink2URL: https://www.we-online.com/components/products/datasheet/7499210001A; Mount: Through Hole; Operating Temperature Min: -40degC; Operating Temperature Max: 85degC; Packaging: Tube; Data Rate: 10/100BASE-T; PoE: PoE; Shield Tabs: No; Tab: Up
footprint 7499210001A
pins: 1 TD+, 2 TCT, 3 TD-, 4 RD+, 5 RCT, 6 RD-, 9 VC1+, 10 VC1-, SH SHIELD

## 7499210121A
designator T?  (value not drawn)
WE-RJ45 LAN Transformer, THT, 100BASE-TX, Tab Down, 1x1 Port; Manufacturer: Wurth Elektronik; Improved CMRR: No; LED: yellow-green; PHY Chip Mode: current & voltage; Manufacturer Part Number: 7499210121A; Product Series: WE-RJ45 LAN; ComponentLink1Description: Website Link; ComponentLink1URL: https://www.we-online.com; ComponentLink2Description: Datasheet Link; ComponentLink2URL: https://www.we-online.com/components/products/datasheet/7499210121A; Mount: Through Hole; Operating Temperature Min: -40degC; Operating Temperature Max: 85degC; Packaging: Tube; Data Rate: 100BASE-TX; Number of Ports: 1x1; PoE: PoE; Shield Tabs: No; Tab: Down
footprint 7499210121A
pins: 1 RD+, 2 RD-, 3 CRD, 4 CTD, 5 TD+, 6 TD-, 9 V+, 10 V-, 11, 12, 13, 14, SH SHIELD

## 7499210123A
designator T?  (value not drawn)
WE-RJ45 LAN Transformer, THT, 100BASE-TX, Tab Vertical, 1 Port; Manufacturer: Wurth Elektronik; Improved CMRR: No; LED: green-yellow; Number of Ports: 1; PHY Chip Mode: current & voltage; PoE: PoE (up to 350 mA); Manufacturer Part Number: 7499210123A; Product Series: WE-RJ45 LAN; ComponentLink1Description: Website Link; ComponentLink1URL: https://www.we-online.com; ComponentLink2Description: Datasheet Link; ComponentLink2URL: https://www.we-online.com/components/products/datasheet/7499210123A; Mount: Through Hole; Operating Temperature Min: -40degC; Operating Temperature Max: 85degC; Packaging: Tray; Data Rate: 100BASE-TX; Shield Tabs: No; Tab: Vertical
footprint 7499210123A
pins: 1 RD+, 2 RD-, 3 CRD, 4 CTD, 5 TD+, 6 TD-, 9 V+, 10 V-, 11, 12, 13, 14, SH SHIELD

## 7499210124A
designator T?  (value not drawn)
WE-RJ45 LAN Transformer, THT, 100BASE-TX, Tab Up, 1x1 Port; Manufacturer: Wurth Elektronik; Improved CMRR: No; LED: yellow-green; PHY Chip Mode: current & voltage; Manufacturer Part Number: 7499210124A; Product Series: WE-RJ45 LAN; ComponentLink1Description: Website Link; ComponentLink1URL: https://www.we-online.com; ComponentLink2Description: Datasheet Link; ComponentLink2URL: https://www.we-online.com/components/products/datasheet/7499210124A; Mount: Through Hole; Operating Temperature Min: -40degC; Operating Temperature Max: 85degC; Packaging: Tube; Data Rate: 100BASE-TX; Number of Ports: 1x1; PoE: PoE; Shield Tabs: No; Tab: Up
footprint 7499210124A
pins: 1 RD+, 2 RD-, 3 CRD, 4 CTD, 5 TD+, 6 TD-, 9 V+, 10 V-, 11, 12, 13, 14, SH SHIELD

## 7499211002A
designator T?  (value not drawn)
WE-RJ45 LAN Transformer, THT, 100BASE-TX, Tab Down, 1x1 Port; Manufacturer: Wurth Elektronik; Improved CMRR: No; LED: No LED; PHY Chip Mode: current; Shield Tabs: Yes; Manufacturer Part Number: 7499211002A; Product Series: WE-RJ45 LAN; ComponentLink1Description: Website Link; ComponentLink1URL: https://www.we-online.com; ComponentLink2Description: Datasheet Link; ComponentLink2URL: https://www.we-online.com/components/products/datasheet/7499211002A; Mount: Through Hole; Operating Temperature Min: -40degC; Operating Temperature Max: 85degC; Packaging: Tube; Data Rate: 100BASE-TX; Number of Ports: 1x1; PoE: PoE; Tab: Down
footprint 7499211002A
pins: 1 TD+, 2 TD-, 3 CTD, 4 RD+, 5 RD-, 7 V1-, 8 V1+, 9 V2+, 10 V2-, SH SHIELD

## 7499211121A
designator T?  (value not drawn)
WE-RJ45 LAN Transformer, THT, 100BASE-TX, Tab Down, 1x1 Port; Manufacturer: Wurth Elektronik; Improved CMRR: No; LED: yellow-green; PHY Chip Mode: current & voltage; Shield Tabs: Yes; Manufacturer Part Number: 7499211121A; Product Series: WE-RJ45 LAN; ComponentLink1Description: Website Link; ComponentLink1URL: https://www.we-online.com; ComponentLink2Description: Datasheet Link; ComponentLink2URL: https://www.we-online.com/components/products/datasheet/7499211121A; Mount: Through Hole; Operating Temperature Min: -40degC; Operating Temperature Max: 85degC; Packaging: Tube; Data Rate: 100BASE-TX; Number of Ports: 1x1; PoE: PoE; Tab: Down
footprint 7499211121A
pins: 1 RD+, 2 RD-, 3 CRD, 4 CTD, 5 TD+, 6 TD-, 9 V+, 10 V-, 11, 12, 13, 14, SH SHIELD

## 7499211122A
designator T?  (value not drawn)
WE-RJ45 LAN Transformer, THT, 100BASE-TX, Tab Down, 1x1 Port; Manufacturer: Wurth Elektronik; Improved CMRR: No; LED: yellow-green; PHY Chip Mode: current; Shield Tabs: Yes; Manufacturer Part Number: 7499211122A; Product Series: WE-RJ45 LAN; ComponentLink1Description: Website Link; ComponentLink1URL: https://www.we-online.com; ComponentLink2Description: Datasheet Link; ComponentLink2URL: https://www.we-online.com/components/products/datasheet/7499211122A; Mount: Through Hole; Operating Temperature Min: 0degC; Operating Temperature Max: 70degC; Packaging: Tube; Data Rate: 100BASE-TX; Number of Ports: 1x1; PoE: PoE; Tab: Down
footprint 7499211122A
pins: 1 TD+, 2 TD-, 3 CTD, 4 RD+, 5 RD-, 7 V1-, 8 V1+, 9 V2+, 10 V2-, 11, 12, 13, 14, SH SHIELD

## 7499211123A
designator T?  (value not drawn)
WE-RJ45 LAN Transformer, THT, 100BASE-TX, Tab Down, 1x1 Port; Manufacturer: Wurth Elektronik; Improved CMRR: Yes; LED: yellow-green; PHY Chip Mode: current; Manufacturer Part Number: 7499211123A; Product Series: WE-RJ45 LAN; ComponentLink1Description: Website Link; ComponentLink1URL: https://www.we-online.com; ComponentLink2Description: Datasheet Link; ComponentLink2URL: https://www.we-online.com/components/products/datasheet/7499211123A; Mount: Through Hole; Operating Temperature Min: 0degC; Operating Temperature Max: 70degC; Packaging: Tube; Data Rate: 100BASE-TX; Number of Ports: 1x1; PoE: PoE; Shield Tabs: Yes; Tab: Down
footprint 7499211123A
pins: 1 TD+, 2 TD-, 3 CTD, 4 RD+, 5 RD-, 7 V1+, 8 V1-, 9 V2+, 10 V2-, 11, 12, 13, 14, SH SHIELD

## 7499211125
designator T?  (value not drawn)
WE-RJ45 LAN Transformer, THT, 10/100BASE-T, Tab Up, 1 Port; Manufacturer: Wurth Elektronik; Improved CMRR: No; LED: yellow-green; Number of Ports: 1; PHY Chip Mode: current & voltage; Shield Tabs: Yes; Manufacturer Part Number: 7499211125; Product Series: WE-RJ45 LAN; ComponentLink1Description: Website Link; ComponentLink1URL: https://www.we-online.com; ComponentLink2Description: Datasheet Link; ComponentLink2URL: https://www.we-online.com/components/products/datasheet/7499211125; Mount: Through Hole; Operating Temperature Min: -40degC; Operating Temperature Max: 85degC; Packaging: Tube; Data Rate: 10/100BASE-T; PoE: PoE; Tab: Up
footprint 7499211125
pins: 1 RD+, 2 RD-, 3 RCT, 4 TD+, 5 TCT, 6 TD-, 9 VC1+, 10 VC1-, 11, 12, 13, 14, SH SHIELD

## 7499311614
designator T?  (value not drawn)
WE-RJ45 LAN Transformer, THT, 1000BASE-T, Tab Up, 1 Port; Manufacturer: Wurth Elektronik; Improved CMRR: No; LED: green/orange-green; Number of Ports: 1; PHY Chip Mode: current & voltage; Shield Tabs: Yes; Manufacturer Part Number: 7499311614; Product Series: WE-RJ45 LAN; ComponentLink1Description: Website Link; ComponentLink1URL: https://www.we-online.com; ComponentLink2Description: Datasheet Link; ComponentLink2URL: https://www.we-online.com/components/products/datasheet/7499311614; Mount: Through Hole; Operating Temperature Min: -40degC; Operating Temperature Max: 85degC; Packaging: Tray; Data Rate: 1000BASE-T; PoE: PoE; Tab: Up
footprint 7499311614
pins: 1 CD3, 2 D3-, 3 D3+, 4 D2+, 5 D2-, 6 CD2, 7 CD4, 8 D4+, 9 D4-, 10 D1-, 11 D1+, 12 CD1, 13 V1, 14 V2, 15 V3, 16 V4, 17, 18, 19, 20, SH SHIELD

## 7499410213
designator T?  (value not drawn)
WE-RJ45 LAN Transformer, THT, 100BASE-TX, Tab Down, 1 Port; Manufacturer: Wurth Elektronik; Improved CMRR: No; LED: green-yellow; Number of Ports: 1; PHY Chip Mode: current; PoE: PoE+; Manufacturer Part Number: 7499410213; Product Series: WE-RJ45 LAN; ComponentLink1Description: Website Link; ComponentLink1URL: https://www.we-online.com; ComponentLink2Description: Datasheet Link; ComponentLink2URL: https://www.we-online.com/components/products/datasheet/7499410213; Mount: Through Hole; Operating Temperature Min: -40degC; Operating Temperature Max: 85degC; Packaging: Tube; Data Rate: 100BASE-TX; Shield Tabs: No; Tab: Down
footprint 7499410213
pins: 1 TD+, 2 TD-, 3 CTD, 4 RD+, 5 RD-, 7 V1+, 8 V1-, 9 V2+, 10 V2-, 11, 12, 13, 14, SH SHIELD

## 7499410221
designator T?  (value not drawn)
WE-RJ45 LAN Transformer, THT, 10/100BASE-T, Tab Vertical, 1 Port; Manufacturer: Wurth Elektronik; Improved CMRR: No; LED: green-green; Number of Ports: 1; PHY Chip Mode: current; PoE: PoE+; Manufacturer Part Number: 7499410221; Product Series: WE-RJ45 LAN; ComponentLink1Description: Website Link; ComponentLink1URL: https://www.we-online.com; ComponentLink2Description: Datasheet Link; ComponentLink2URL: https://www.we-online.com/components/products/datasheet/7499410221; Mount: Through Hole; Operating Temperature Min: -40degC; Operating Temperature Max: 85degC; Packaging: Tube; Data Rate: 10/100BASE-T; Shield Tabs: No; Tab: Vertical
footprint 7499410221
pins: 1 TD+, 2 TCT, 3 TD-, 4 RD+, 5 RD-, 7 VC1-, 8 VC1+, 9 VC2-, 10 VC2+, 11, 12, 13, 14, SH SHIELD

## 7499410443
designator T?  (value not drawn)
WE-RJ45 LAN Transformer, THT, 100BASE-TX, Tab Down, 1 Port; Manufacturer: Wurth Elektronik; Improved CMRR: No; LED: green/yellow - green/yellow; Number of Ports: 1; PHY Chip Mode: current & voltage; PoE: PoE+; Manufacturer Part Number: 7499410443; Product Series: WE-RJ45 LAN; ComponentLink1Description: Website Link; ComponentLink1URL: https://www.we-online.com; ComponentLink2Description: Datasheet Link; ComponentLink2URL: https://www.we-online.com/components/products/datasheet/7499410443; Mount: Through Hole; Operating Temperature Min: -40degC; Operating Temperature Max: 85degC; Packaging: Tray; Data Rate: 100BASE-TX; Shield Tabs: No; Tab: Down
footprint 7499410443
pins: 1 TD+, 2 CTD, 3 TD-, 4 RD+, 5 CRD, 6 RD-, 11 V1, 12 V2, 13 V3, 14 V4, 15, 16, 17, 18, SH SHIELD

## 7499411122A
designator T?  (value not drawn)
WE-RJ45 LAN Transformer, THT, 100BASE-TX, Tab Up, 1 Port; Manufacturer: Wurth Elektronik; Improved CMRR: Yes; LED: yellow-green; Number of Ports: 1; PHY Chip Mode: current & voltage; PoE: PoE+; Manufacturer Part Number: 7499411122A; Product Series: WE-RJ45 LAN; ComponentLink1Description: Website Link; ComponentLink1URL: https://www.we-online.com; ComponentLink2Description: Datasheet Link; ComponentLink2URL: https://www.we-online.com/components/products/datasheet/7499411122A; Mount: Through Hole; Operating Temperature Min: 0degC; Operating Temperature Max: 70degC; Packaging: Tray; Data Rate: 100BASE-TX; Shield Tabs: Yes; Tab: Up
footprint 7499411122A
pins: 4 RD+, 5 RD-, 6 CRD, 10 TD-, 11 TD+, 12 CTD, 13 V1+, 14 V1-, 15 V2+, 16 V2-, 17, 18, 19, 20, SH SHIELD

## 7499411443
designator T?  (value not drawn)
WE-RJ45 LAN Transformer, THT, 100BASE-TX, Tab Down, 1 Port; Manufacturer: Wurth Elektronik; Improved CMRR: No; LED: green/yellow - green/yellow; Number of Ports: 1; PHY Chip Mode: current & voltage; PoE: PoE+; Shield Tabs: Yes; Manufacturer Part Number: 7499411443; Product Series: WE-RJ45 LAN; ComponentLink1Description: Website Link; ComponentLink1URL: https://www.we-online.com; ComponentLink2Description: Datasheet Link; ComponentLink2URL: https://www.we-online.com/components/products/datasheet/7499411443; Mount: Through Hole; Operating Temperature Min: -40degC; Operating Temperature Max: 85degC; Packaging: Tray; Data Rate: 100BASE-TX; Tab: Down
footprint 7499411443
pins: 1 TD+, 2 CTD, 3 TD-, 4 RD+, 5 CRD, 6 RD-, 11 V1, 12 V2, 13 V3, 14 V4, 15, 16, 17, 18, SH SHIELD

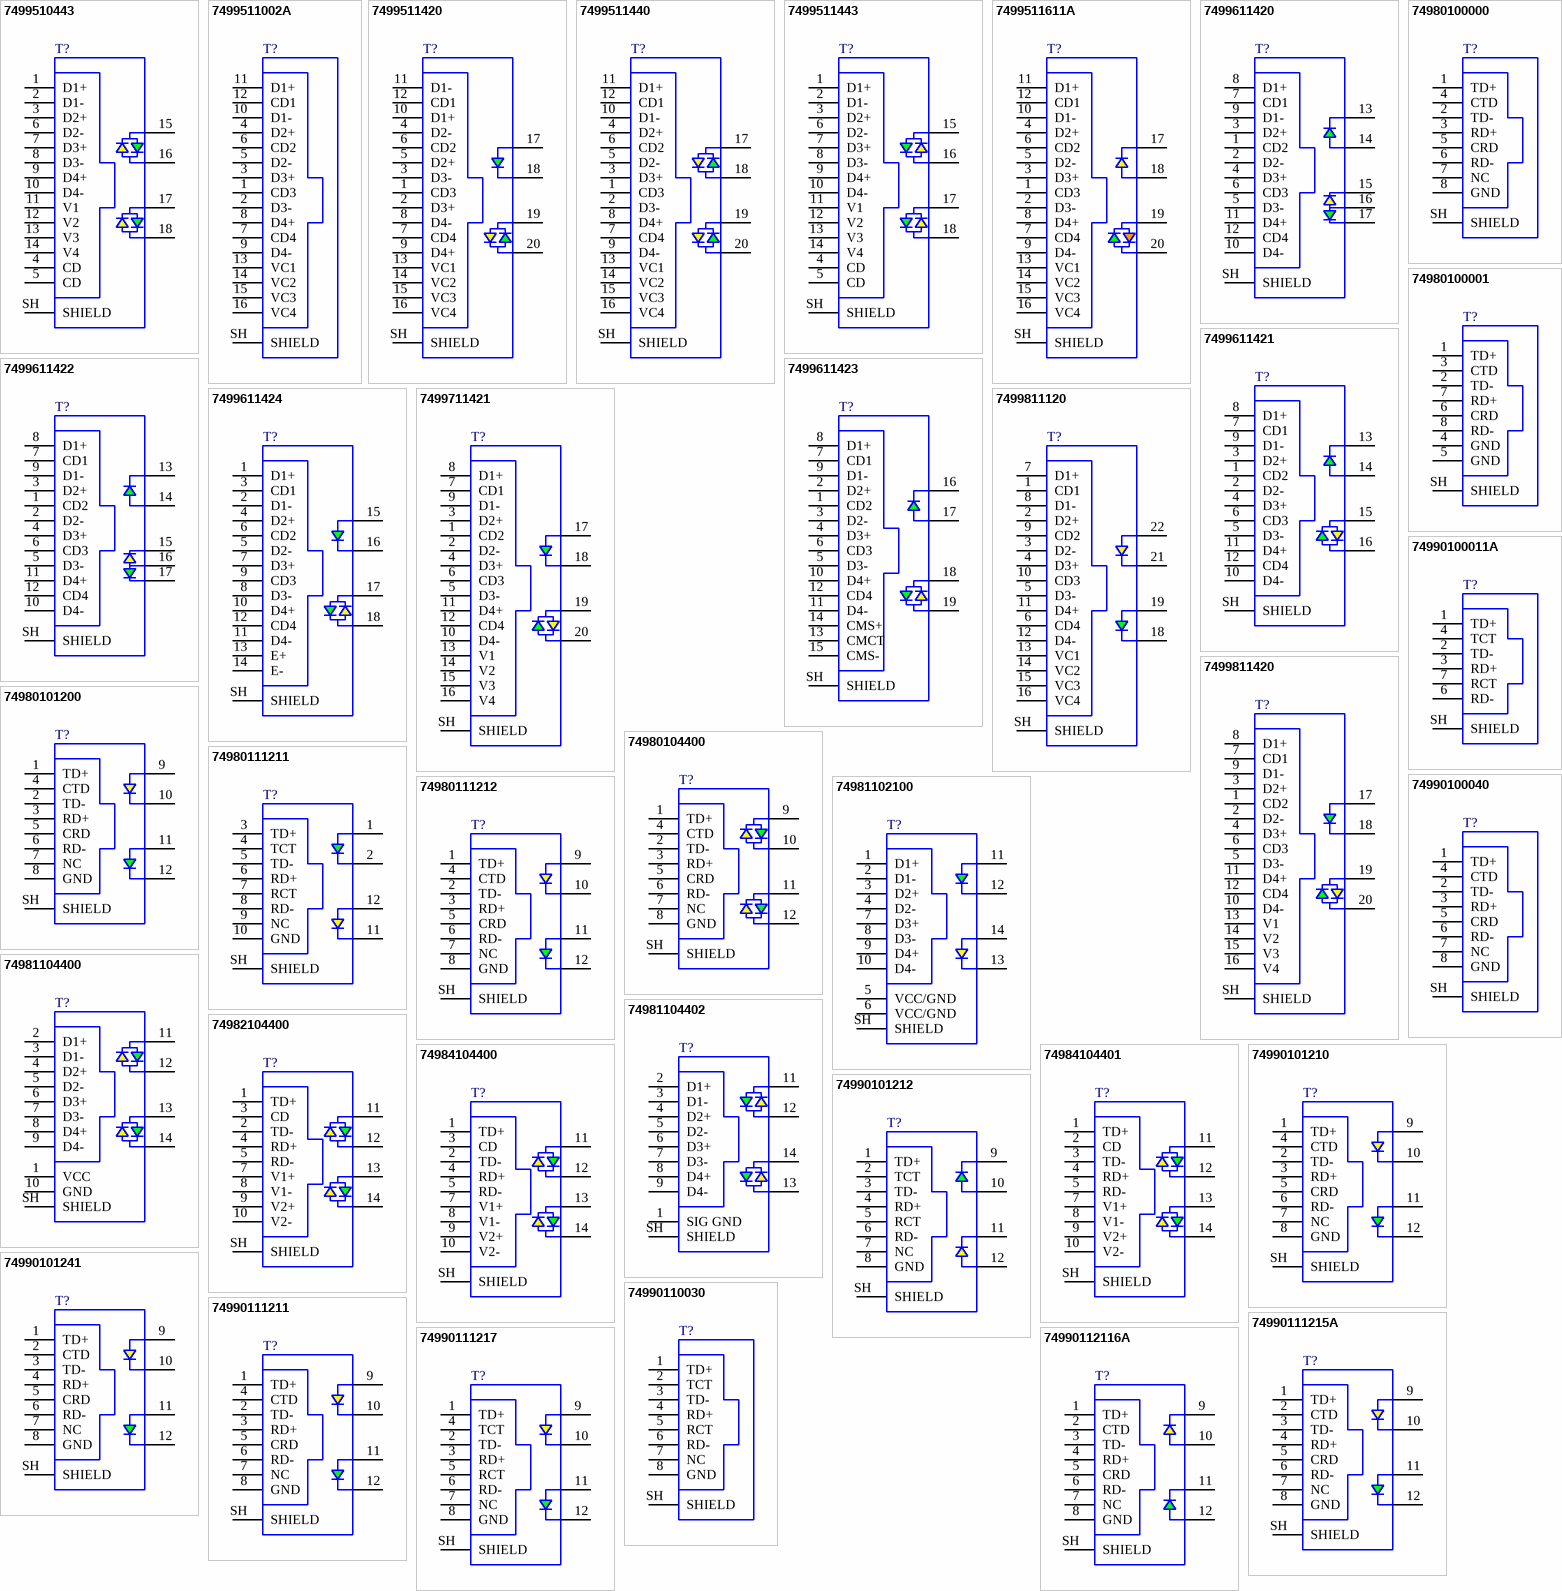
[diagram p2: symbols 7499510443 to 74990112116A]